# Altium footprint library 04021JR05ZBSTR.PcbLib: 3 footprints
Each footprint in its own frame and in the unit in brackets; x right, y up, seen from the top. Pads: shape width x height; smd on the part's side, far side on the other; paste and mask are expansions set on the pad; w line width, h text height; cw(c..) or ccw(c..) is an arc to the next point about the centre after c.
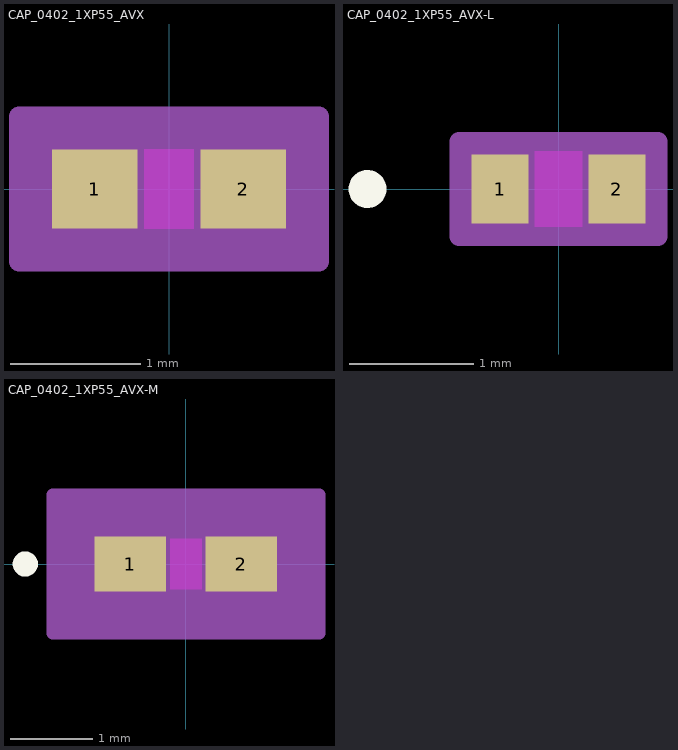
[diagram p0: the footprints below, top view; thin cyan lines are the x and y axes]

## CAP_0402_1XP55_AVX [mil]
pads (2):
  rect 26x24 smd paste+0 mask+0: 1(-22.5,0) 2(22.5,0)
Top Layer keep-out:
  region: -7.5,-10 -7.5,10 7.5,10 7.5,-10
Keep-Out Layer:
  region: -7.5,-12 -7.5,12 7.5,12 7.5,-12
Mechanical 13:
  lines w1: -21.5,-12 -21.5,12 ; -21.5,-12 21.5,-12 ; -21.5,-12 -9.5,-12 -9.5,12 -21.5,12 ; -21.5,-12 -21.5,12 ; -21.5,12 21.5,12 ; 21.5,-12 21.5,12 ; 21.5,-12 21.5,12 ; 21.5,-12 9.5,-12 9.5,12 21.5,12
Mechanical 15:
  region: 45.5,-22 -45.5,-22 -45.5,22 45.5,22
  lines w6: -45.5,-22 45.5,-22 45.5,22 -45.5,22 -45.5,-22
3D body "CAP_0402_1XP55_AVX.step": height 20, standoff 0, extent -21.5,-12.01 21.5,12.01

## CAP_0402_1XP55_AVX-L [mil]
pads (2):
  rect 18x22 smd paste+0 mask+0: 1(-18.5,0) 2(18.5,0)
Top Layer keep-out:
  region: -7.5,-10 -7.5,10 7.5,10 7.5,-10
Top Overlay:
  circle w6: c-60.5,0 r3
Keep-Out Layer:
  region: -7.5,-12 -7.5,12 7.5,12 7.5,-12
Mechanical 13:
  circle w0: c-13.5,0 r3
  lines w1: -21.5,-12 -21.5,12 ; -21.5,-12 21.5,-12 ; -21.5,-12 -9.5,-12 -9.5,12 -21.5,12 ; -21.5,-12 -21.5,12 ; -21.5,12 21.5,12 ; 21.5,-12 21.5,12 ; 21.5,-12 21.5,12 ; 21.5,-12 9.5,-12 9.5,12 21.5,12
Mechanical 15:
  region: 31.5,-15 -31.5,-15 -31.5,15 31.5,15
  lines w6: -31.5,-15 31.5,-15 31.5,15 -31.5,15 -31.5,-15
3D body "CAP_0402_1XP55_AVX.step": height 20, standoff 0, extent -21.5,-12.01 21.5,12.01

## CAP_0402_1XP55_AVX-M [mil]
pads (2):
  rect 34x26 smd paste+0 mask+0: 1(-26.5,0) 2(26.5,0)
Top Layer keep-out:
  region: -7.5,-10 -7.5,10 7.5,10 7.5,-10
Top Overlay:
  circle w6: c-76.5,0 r3
Keep-Out Layer:
  region: -7.5,-12 -7.5,12 7.5,12 7.5,-12
Mechanical 13:
  circle w0: c-21.5,0 r3
  lines w1: -21.5,-12 -21.5,12 ; -21.5,-12 21.5,-12 ; -21.5,-12 -9.5,-12 -9.5,12 -21.5,12 ; -21.5,-12 -21.5,12 ; -21.5,12 21.5,12 ; 21.5,-12 21.5,12 ; 21.5,-12 21.5,12 ; 21.5,-12 9.5,-12 9.5,12 21.5,12
Mechanical 15:
  region: 63.5,-33 -63.5,-33 -63.5,33 63.5,33
  lines w6: -63.5,-33 63.5,-33 63.5,33 -63.5,33 -63.5,-33
3D body "CAP_0402_1XP55_AVX.step": height 20, standoff 0, extent -21.5,-12.01 21.5,12.01